# Altium integrated library 12065A152JAT2A.IntLib: 1 symbol
Pins are listed as number, name and electrical type; pins without a type are passive.

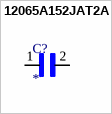
[diagram p0: symbol 12065A152JAT2A]

## 12065A152JAT2A
designator C?
1500PF 50V 5% 1206; MP: 12065A152JAT2A; Package: None; Price: None; Value: *; Availability: Unavailable
footprint CAPC3216X94N
pins: 1, 2